# Altium integrated library NSIM-2-C.IntLib: 1 symbol
Pins are listed as number, name and electrical type; pins without a type are passive.

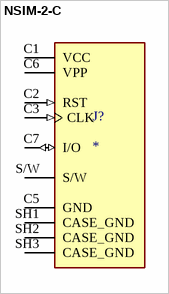
[diagram p0: symbol NSIM-2-C]

## NSIM-2-C
designator J?
MP: NSIM-2-C; Package: None; Price: None; Value: *; Availability: Unavailable
footprint CUI_NSIM-2-C
pins: C1 VCC (power), C2 RST (in), C3 CLK (in), C5 GND (power), C6 VPP (power), C7 I/O (io), S/W, SH1 CASE_GND (power), SH2 CASE_GND (power), SH3 CASE_GND (power)